# Altium schematic symbol library ICS_DIVERSOS.SchLib: 48 symbols (part 3 of 3)
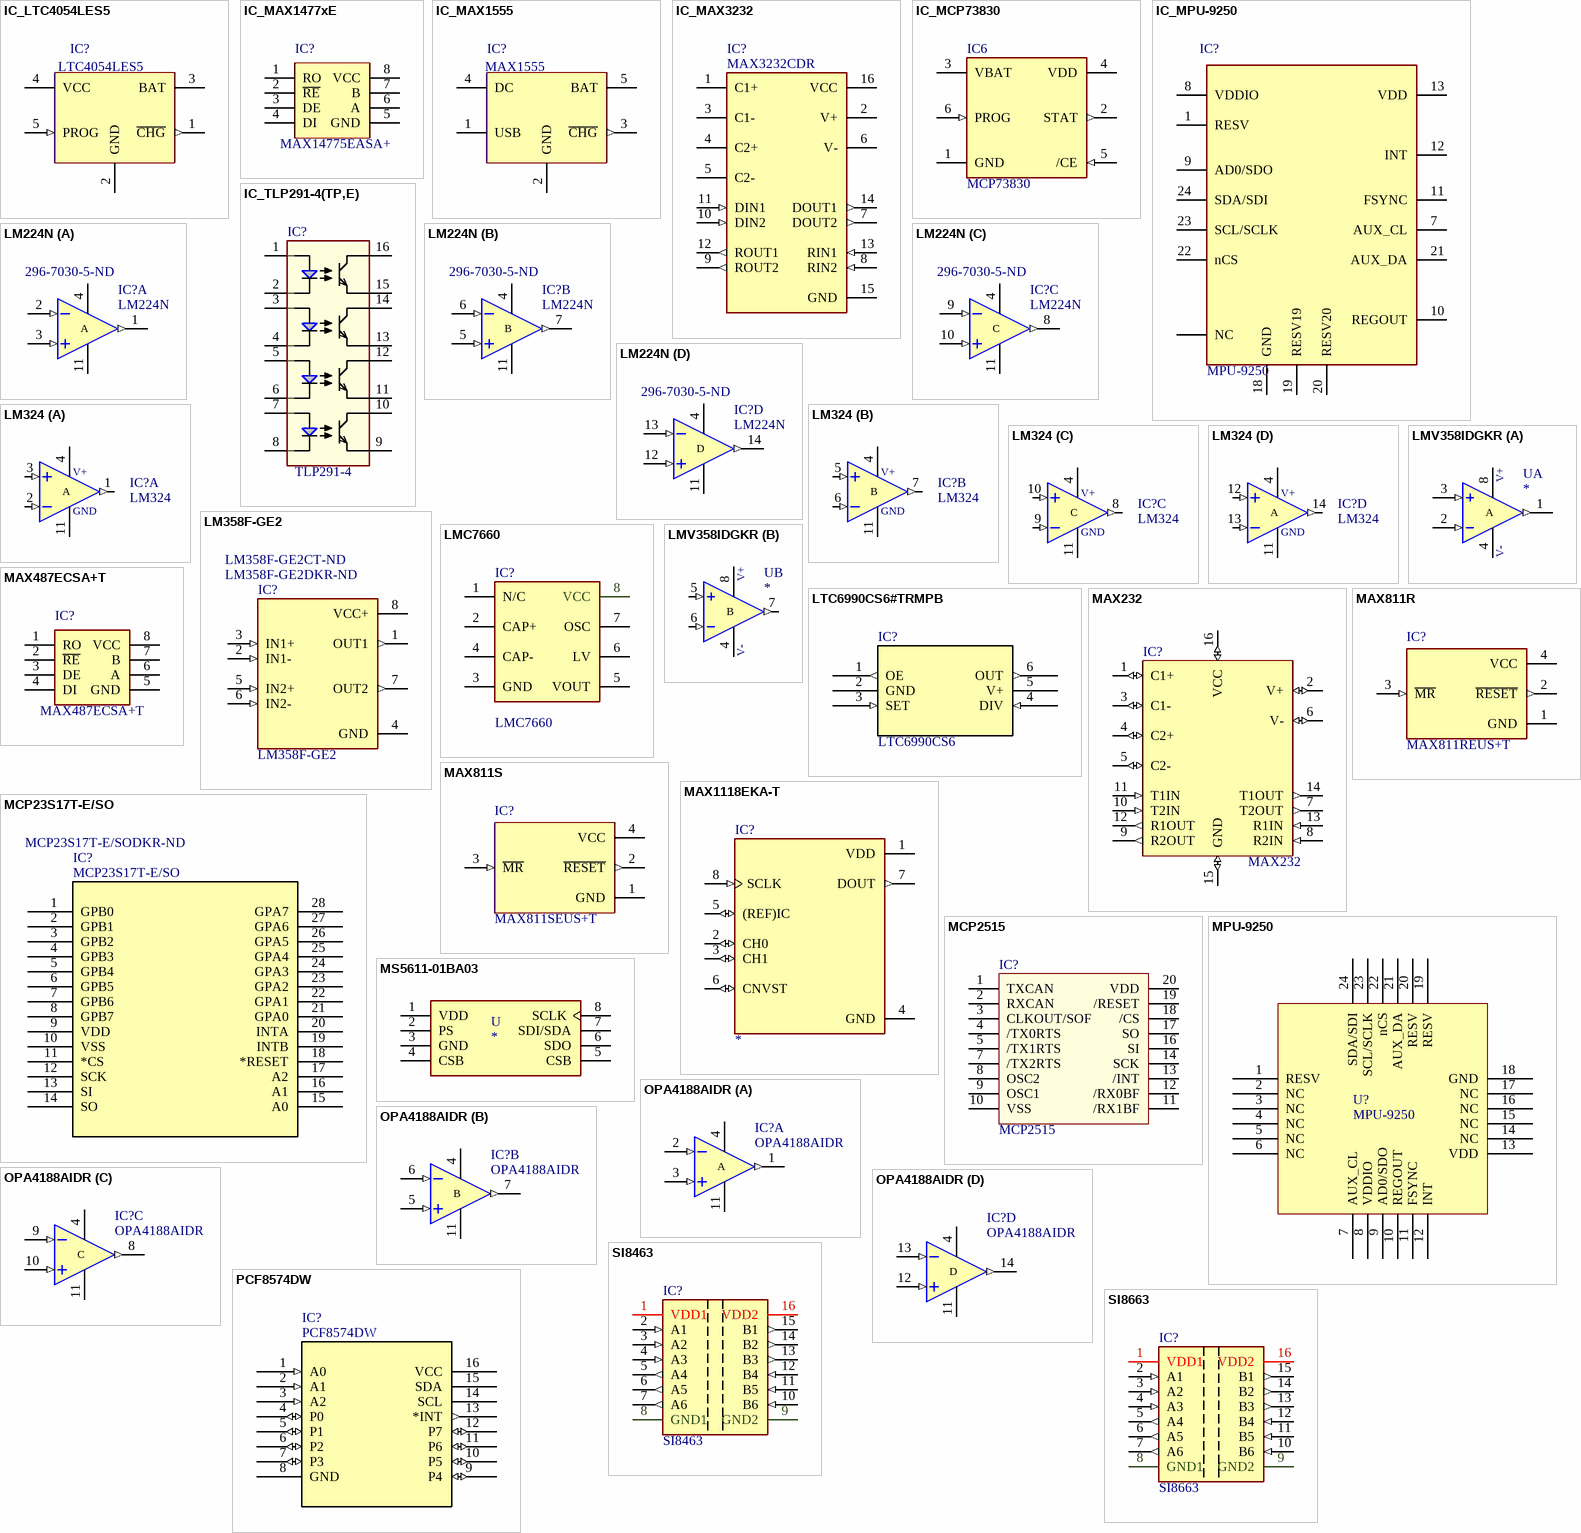
[diagram p4: symbols IC_LTC4054LES5 to SI8663]

## SI8463
designator IC?
Low Power Six-Channel Digital Isolator; Manufacturer: Silicon Labs; Manufacturer Part Number: SI8463AB-A-IS1; Fabricante: SILABS; Min Supply Voltage: 2.7V; Max Supply Voltage: 5.5V; Number of Channels: 6; Data Rate: 1Mbps; Propagation Delay: 35ns; Channel Type: Unidirectional; Isolated Power: No; Pulse Width Distortion (PWD): 25ns; Nominal Supply Current: 6mA; Power Dissipation: 415mW; MPN: SI8463; VALUE: SI8463; Footprint: SOIC 16_NB; Supplier 1: Digi-Key; Supplier Part Number 1: SI8463AB-A-IS1-ND; Stock 1: 0; Pricing 1: 48=2,16229 (USD); RoHS: Yes; Case/Package: SOIC; Number of Pins: 16; Weight: 0.006637oz; Min Operating Temperature: -40°C; Max Operating Temperature: 125°C; Packaging: Rail/Tube; Type: General Purpose; Package Quantity: 48; Radiation Hardening: No; ComponentLink1URL: https://datasheet.ciiva.com/9213/si846x-9213227.pdf?src-supplier=Avnet; ComponentLink1Description: https://datasheet.ciiva.com/9213/si846x-9213227.pdf?src-supplier=Avnet; ComponentLink2URL: https://datasheet.ciiva.com/2082/si846x-2082861.pdf?src-supplier=Digi-Key; ComponentLink2Description: https://datasheet.ciiva.com/2082/si846x-2082861.pdf?src-supplier=Digi-Key
footprint NB SOIC-16 (SOIC 16 PIN NARROW BODY)
pins: 1 VDD1 (power), 2 A1 (in), 3 A2 (in), 4 A3 (in), 5 A4 (out), 6 A5 (out), 7 A6 (out), 8 GND1 (power), 9 GND2 (power), 10 B6 (in), 11 B5 (in), 12 B4 (in), 13 B3 (out), 14 B2 (out), 15 B1 (out), 16 VDD2 (power)

## SI8663
designator IC?
Low Power Six-Channel Digital Isolator; Manufacturer: Silicon Labs; Manufacturer Part Number: SI8663BD-B-IS; Fabricante: SILABS; Number of Channels: 6; Data Rate: 150Mbps; Propagation Delay: 13ns; Channel Type: Unidirectional; Isolated Power: No; Pulse Width Distortion (PWD): 4.5ns; Min Supply Voltage: 2.5V; Max Supply Voltage: 5.5V; Max Power Dissipation: 415mW; Isolation Voltage: 5kV; Operating Supply Current: 12.3mA; Rise Time: 4ns; Turn-On Delay Time: 10ns; Max Input Current: 9.1mA; MPN: SI8663; Footprint: FOOTPRINT; VALUE: SI8663; Supplier 1: Digi-Key; Supplier Part Number 1: 336-2129-5-ND; Stock 1: 598; Pricing 1: 1=2,86000, 25=2,75000, 100=2,64420, 1000=2,59899 (USD); RoHS: Yes; Case/Package: SOIC; Number of Pins: 16; Weight: 0.001764oz; Min Operating Temperature: -40°C; Max Operating Temperature: 125°C; Packaging: Rail/Tube; Type: General Purpose; Polarity: Unidirectional; Length: 10.3mm; Width: 2.65mm; Depth: 7.5mm; REACH SVHC: Unknown; ComponentLink1URL: https://datasheet.ciiva.com/2082/si866x-2082067.pdf?src-supplier=Digi-Key; ComponentLink1Description: https://datasheet.ciiva.com/2082/si866x-2082067.pdf?src-supplier=Digi-Key; ComponentLink2URL: https://datasheet.ciiva.com/46410/1816593-46410042.pdf?src-supplier=Element14; ComponentLink2Description: https://datasheet.ciiva.com/46410/1816593-46410042.pdf?src-supplier=Element14; ComponentLink3URL: https://datasheet.ciiva.com/4781/si866x-41125-4781965.pdf?src-supplier=Mouser; ComponentLink3Description: https://datasheet.ciiva.com/4781/si866x-41125-4781965.pdf?src-supplier=Mouser
footprint WB SOIC-16 (SOIC, 16-Leads, Body 10,30x7,50mm, Pitch 1,27mm, IPC Medium Density)
pins: 1 VDD1 (power), 2 A1 (in), 3 A2 (in), 4 A3 (in), 5 A4 (out), 6 A5 (out), 7 A6 (out), 8 GND1 (power), 9 GND2 (power), 10 B6 (in), 11 B5 (in), 12 B4 (in), 13 B3 (out), 14 B2 (out), 15 B1 (out), 16 VDD2 (power)

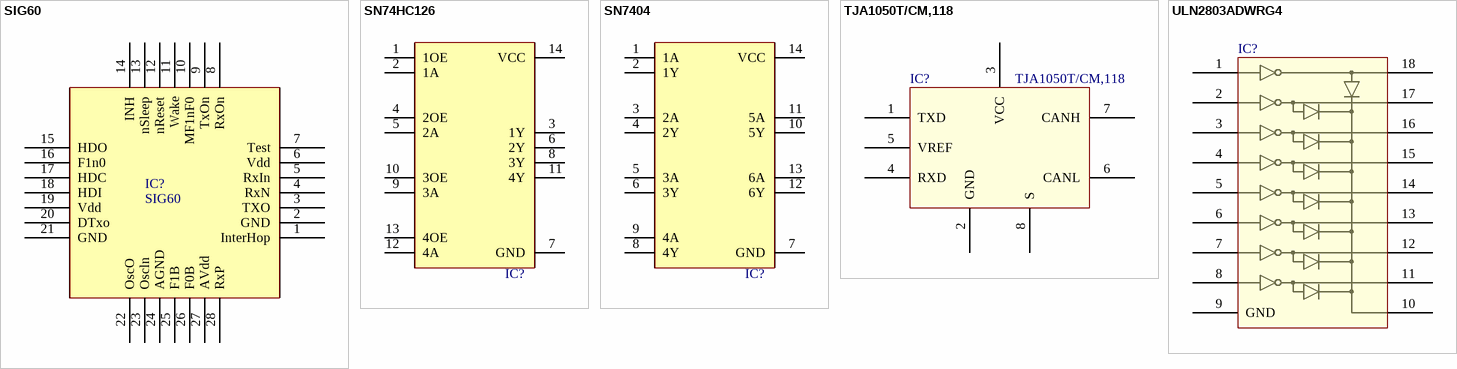
[diagram p2: symbols SIG60 to ULN2803ADWRG4]

## SIG60
designator IC?
The SIG60 IC device communicate over DC battery power line using UART protocol bytes at bit rates up to 115.2 Kbit/s.; MPN: *; Value: *; Footprint: *; Parameter 1: *; ComponentLink1Description: Datasheet; ComponentLink1URL: https://www.yamar.com/datasheet/DS-SIG60.pdf; ComponentLink2Description: Loja; ComponentLink2URL: https://yamar.com/product/sig60/
footprint QFN28
pins: 1 InterHop, 2 GND, 3 TXO, 4 RxN, 5 RxIn, 6 Vdd, 7 Test, 8 RxOn, 9 TxOn, 10 MF1nF0, 11 Wake, 12 nReset, 13 nSleep, 14 INH, 15 HDO, 16 F1n0, 17 HDC, 18 HDI, 19 Vdd, 20 DTxo, 21 GND, 22 OscO, 23 Oscln, 24 AGND, 25 F1B, 26 F0B, 27 AVdd, 28 RxP

## SN74HC126
designator IC?, comment SN74HC126N  (value not drawn)
IC BUFFER NON-INVERT 6V 14DIP; Fabricante: Texas Instruments; Logic Function: Buffer,Inverting; Number of Elements: 4; Propagation Delay: 188ns; Number of Bits per Element: 1; High Level Output Current: -7.8mA; Low Level Output Current: 7.8mA; Polarity: Non-Inverting; Operating Supply Voltage: 5V; Min Supply Voltage: 2V; Quiescent Current: 8uA; Schmitt Trigger Input: No; ComponentLink1Description: LOJA; ComponentLink1URL: https://www.digikey.com/product-detail/en/texas-instruments/SN74HC126N/296-8221-5-ND/376889; ComponentLink2Description: DATASHEET; ComponentLink2URL: https://www.ti.com/lit/ds/symlink/sn74hc126.pdf?ts=1591663440366; Footprint: 14-PDIP; MPN: SN74HC126N; Value: SN74HC126N; Supplier 1: Digi-Key; Supplier Part Number 1: 296-8221-5-ND; Manufacturer: Texas Instruments; Manufacturer Part Number: SN74HC126N; Stock 1: 1620; Pricing 1: 1=0,43000, 10=0,37100, 25=0,34640, 100=0,27720, 250=0,25740, 500=0,21780, 1000=0,16830, 2500=0,15345, 5000=0,14355 (USD); RoHS: Yes; Mount: Through Hole; Case/Package: PDIP; Number of Pins: 14; Min Operating Temperature: -40°C; Max Operating Temperature: 85°C; Packaging: Rail/Tube; Number of Outputs: 4; Number of Bits: 4; Number of Channels: 4; Number of Inputs: 4; Max Supply Voltage: 6V; Package Quantity: 25; Number of Input Lines: 4; Number of Output Lines: 4; Turn-On Delay Time: 188ns; Output Current: 7.8mA; Termination: Through Hole; Output Voltage: 6V; Length: 19.3mm; Height: 4.57mm; Width: 6.35mm; Radiation Hardening: No; Lead Free: Lead Free; REACH SVHC: No SVHC; ComponentLink3URL: https://datasheet.ciiva.com/15094/getdatasheetpartid-37264-15094071.pdf?src-supplier=Verical; ComponentLink3Description: https://datasheet.ciiva.com/15094/getdatasheetpartid-37264-15094071.pdf?src-supplier=Verical; ComponentLink4URL: https://datasheet.ciiva.com/27747/914849-27747592.pdf?src-supplier=Jameco; ComponentLink4Description: https://datasheet.ciiva.com/27747/914849-27747592.pdf?src-supplier=Jameco; ComponentLink5URL: https://datasheet.ciiva.com/41457/001016650-da-01-en-ic-bus-buf-qd-sn7-sn74hc126n-pdip-14-tid-41457018.pdf?src-supplier=Conrad; ComponentLink5Description: https://datasheet.ciiva.com/41457/001016650-da-01-en-ic-bus-buf-qd-sn7-sn74hc126n-pdip-14-tid-41457018.pdf?src-supplier=Conrad; ComponentLink6URL: https://datasheet.ciiva.com/29296/164364-da-01-en-74hc125-126-29296638.pdf?src-supplier=Conrad; ComponentLink6Description: https://datasheet.ciiva.com/29296/164364-da-01-en-74hc125-126-29296638.pdf?src-supplier=Conrad; ComponentLink7URL: https://datasheet.ciiva.com/1834/sn74hc126-1834711.pdf?src-supplier=Digi-Key; ComponentLink7Description: https://datasheet.ciiva.com/1834/sn74hc126-1834711.pdf?src-supplier=Digi-Key; ComponentLink8URL: https://datasheet.ciiva.com/7794/1767018-7794923.pdf?src-supplier=Element14; ComponentLink8Description: https://datasheet.ciiva.com/7794/1767018-7794923.pdf?src-supplier=Element14; ComponentLink9URL: https://datasheet.ciiva.com/26247/sn74hc126-26247949.pdf?src-supplier=Avnet+Europe; ComponentLink9Description: https://datasheet.ciiva.com/26247/sn74hc126-26247949.pdf?src-supplier=Avnet+Europe; ComponentLink10URL: https://datasheet.ciiva.com/14300/sn74hc126-14300988.pdf?src-supplier=Avnet; ComponentLink10Description: https://datasheet.ciiva.com/14300/sn74hc126-14300988.pdf?src-supplier=Avnet; ComponentLink11URL: https://datasheet.ciiva.com/46439/1831363-46439773.pdf?src-supplier=Element14; ComponentLink11Description: https://datasheet.ciiva.com/46439/1831363-46439773.pdf?src-supplier=Element14
footprint DIP14 (DIP; 14 Leads; Row Spacing 7.62 mm; Pitch 2.54 mm)
pins: 1 1OE, 2 1A, 3 1Y (power), 4 2OE, 5 2A, 6 2Y, 7 GND (power), 8 3Y, 9 3A, 10 3OE, 11 4Y (power), 12 4A, 13 4OE, 14 VCC (power)

## SN7404
designator IC?  (value not drawn)
IC INVERTER 6CH 6-INP 14DIP; Manufacturer Part Number: SN7404N; Fabricante: Texas Instruments; Min Supply Voltage: 4.75V; Max Supply Voltage: 5.25V; Propagation Delay: 22ns; Operating Supply Voltage: 5V; Number of Gates: 6; Output Current: 16mA; Number of Inputs: 1; Logic Function: Buffer,Inverter; High Level Output Current: -400uA; Schmitt Trigger Input: No; ComponentLink1Description: LOJA; ComponentLink1URL: https://www.digikey.com/product-detail/en/texas-instruments/SN7404N/296-14642-5-ND/555980; ComponentLink2Description: DATASHEET; ComponentLink2URL: https://www.ti.com/lit/ds/symlink/sn74ls04.pdf; Footprint: 14-PDIP; MPN: SN7404; Value: SN7404; Supplier 1: Digi-Key; Supplier Part Number 1: 296-14642-5-ND; Manufacturer: Texas Instruments; Stock 1: 1231; Pricing 1: 1=2,02000, 10=1,81300, 25=1,71000, 100=1,45690, 250=1,36800, 500=1,19700, 1000=0,99180, 2500=0,92340, 5000=0,90972 (USD); RoHS: Yes; Mount: Through Hole; Case/Package: PDIP; Number of Pins: 14; Weight: 0.032734oz; Contact Plating: Gold; Min Operating Temperature: 0°C; Max Operating Temperature: 70°C; Packaging: Rail/Tube; Package Quantity: 25; Number of Circuits: 6; Low Level Output Current: 16mA; Number of Bits: 6; Turn-On Delay Time: 22ns; Number of Elements: 6; Max Output Current: 16mA; Termination: Through Hole; Length: 19.3mm; Height: 4.57mm; Width: 6.35mm; Radiation Hardening: No; Lead Free: Lead Free; REACH SVHC: No SVHC; ComponentLink3URL: https://datasheet.ciiva.com/20167/83-0852-20167581.pdf?src-supplier=Rapid+Electronics; ComponentLink3Description: https://datasheet.ciiva.com/20167/83-0852-20167581.pdf?src-supplier=Rapid+Electronics; ComponentLink4URL: https://datasheet.ciiva.com/15089/getdatasheetpartid-237341-15089423.pdf?src-supplier=Verical; ComponentLink4Description: https://datasheet.ciiva.com/15089/getdatasheetpartid-237341-15089423.pdf?src-supplier=Verical; ComponentLink5URL: https://datasheet.ciiva.com/41456/001015986-da-01-en-ic-hex-inverter-sn74-sn7404n-pdip-14-tid-41456116.pdf?src-supplier=Conrad; ComponentLink5Description: https://datasheet.ciiva.com/41456/001015986-da-01-en-ic-hex-inverter-sn74-sn7404n-pdip-14-tid-41456116.pdf?src-supplier=Conrad; ComponentLink6URL: https://datasheet.ciiva.com/29296/170054-da-01-en-sn-7404-n-5404-74ls04-54ls04-29296935.pdf?src-supplier=Conrad; ComponentLink6Description: https://datasheet.ciiva.com/29296/170054-da-01-en-sn-7404-n-5404-74ls04-54ls04-29296935.pdf?src-supplier=Conrad; ComponentLink7URL: https://datasheet.ciiva.com/1867/sn74ls04-1867777.pdf?src-supplier=Digi-Key; ComponentLink7Description: https://datasheet.ciiva.com/1867/sn74ls04-1867777.pdf?src-supplier=Digi-Key; ComponentLink8URL: https://datasheet.ciiva.com/7281/1836444-7281576.pdf?src-supplier=Newark; ComponentLink8Description: https://datasheet.ciiva.com/7281/1836444-7281576.pdf?src-supplier=Newark; ComponentLink9URL: https://datasheet.ciiva.com/26242/sn54ls04-sp-26242202.pdf?src-supplier=Avnet+Europe; ComponentLink9Description: https://datasheet.ciiva.com/26242/sn54ls04-sp-26242202.pdf?src-supplier=Avnet+Europe; ComponentLink10URL: https://datasheet.ciiva.com/14134/sn7404-eng-tds-14134445.pdf?src-supplier=Distrelec; ComponentLink10Description: https://datasheet.ciiva.com/14134/sn7404-eng-tds-14134445.pdf?src-supplier=Distrelec
footprint DIP14 (DIP; 14 Leads; Row Spacing 7.62 mm; Pitch 2.54 mm)
pins: 1 1A, 2 1Y, 3 2A, 4 2Y, 5 3A, 6 3Y, 7 GND (power), 8 4Y, 9 4A, 10 5Y, 11 5A (power), 12 6Y (power), 13 6A, 14 VCC (power)

## TJA1050T/CM,118
designator IC?
1/1 Transceiver Half CANbus 8-SO; Manufacturer: NXP Semiconductors; FABRICANTE: NXP USA Inc.; Max Supply Voltage: 5.25V; Min Supply Voltage: 4.75V; Nominal Supply Current: 10mA; Number of Transmit Buffers: 1; Data Rate: 1Mbps; Interface: CAN; Simplex/Duplex: Half Duplex; Receiver Hysteresis: 70mV; ComponentLink1Description: LOJA; ComponentLink1URL: https://www.digikey.com/product-detail/en/nxp-usa-inc/TJA1050T-CM-118/568-10292-1-ND/4162437; ComponentLink2Description: DATASHEET; ComponentLink2URL: https://www.nxp.com/docs/en/data-sheet/TJA1050.pdf; MPN: TJA1050T/CM,118; FOOTPRINT: 8-SOIC; Value: TJA1050T/CM,118; Supplier 1: Digi-Key; Supplier Part Number 1: 568-10292-1-ND; Manufacturer Part Number: TJA1050T/CM,118; Stock 1: 110249; Pricing 1: 1=1,22000, 10=1,09200, 25=1,03600, 100=0,79550, 250=0,70300, 500=0,66600, 1000=0,51800 (USD); RoHS: Yes; Mount: Surface Mount; Case/Package: SO; Number of Pins: 8; Contact Plating: Gold,Silver; Min Operating Temperature: -40°C; Max Operating Temperature: 150°C; Packaging: Tape and Reel; Package Quantity: 2500; Number of Receive Buffers: 1; Number of Transceivers: 1; Max Supply Current: 10mA; Radiation Hardening: No; REACH SVHC: No SVHC; Lead Free: Lead Free; ComponentLink3URL: https://datasheet.ciiva.com/18624/tja1050-18624869.pdf?src-supplier=Digi-Key; ComponentLink3Description: https://datasheet.ciiva.com/18624/tja1050-18624869.pdf?src-supplier=Digi-Key; ComponentLink4URL: https://datasheet.ciiva.com/26933/getdatasheetpartid-747091-26933446.pdf?src-supplier=Verical; ComponentLink4Description: https://datasheet.ciiva.com/26933/getdatasheetpartid-747091-26933446.pdf?src-supplier=Verical; ComponentLink5URL: https://datasheet.ciiva.com/29891/tja1050-29891527.pdf?src-supplier=Avnet; ComponentLink5Description: https://datasheet.ciiva.com/29891/tja1050-29891527.pdf?src-supplier=Avnet; ComponentLink6URL: https://datasheet.ciiva.com/24191/tja1050-24191228.pdf?src-supplier=Future+Electronics; ComponentLink6Description: https://datasheet.ciiva.com/24191/tja1050-24191228.pdf?src-supplier=Future+Electronics
footprint SOIC 8 - M (SOIC, 8-Leads, Body 4,93x3,94mm, Pitch 1,27mm, IPC Medium Density)
pins: 1 TXD, 2 GND, 3 VCC, 4 RXD, 5 VREF, 6 CANL, 7 CANH, 8 S

## ULN2803ADWRG4
designator IC?  (value not drawn)
Bipolar (BJT) Transistor Array 8 NPN Darlington 50V 500mA   Surface Mount 18-SOIC; MPN: ULN2803ADWRG4; FABRICANTE: Texas Instruments; Number of Elements: 8; Collector Emitter Saturation Voltage: 1.1V; VALUE: *; FOOTPRINT: 18 SOIC; ComponentLink1Description: LOJA; ComponentLink1URL: https://www.digikey.com/product-detail/en/texas-instruments/ULN2803ADWRG4/296-35964-1-ND/4134939; ComponentLink2Description: DATASHEET; ComponentLink2URL: http://www.ti.com/lit/ds/symlink/uln2803a.pdf?ts=1588785608972; Supplier 1: Digi-Key; Supplier Part Number 1: 296-35964-1-ND; Manufacturer: Texas Instruments; Manufacturer Part Number: ULN2803ADWRG4; Stock 1: 6214; Pricing 1: 1=1,29000, 10=1,15100, 25=1,09200, 100=0,81900, 250=0,81120, 500=0,69420, 1000=0,56550 (USD); RoHS: Yes; Mount: Surface Mount; Case/Package: SOIC; Number of Pins: 18; Contact Plating: Gold; Min Operating Temperature: -65°C; Max Operating Temperature: 150°C; Packaging: Tape and Reel; Package Quantity: 2000; Collector Emitter Voltage (VCEO): 50V; Polarity: NPN; Max Collector Current: 500mA; Collector Emitter Breakdown Voltage: 50V; Max Breakdown Voltage: 50V; Number of Drivers: 8; Length: 11.62mm; Height: 2.35mm; Width: 7.52mm; Radiation Hardening: No; Lead Free: Lead Free; ComponentLink3URL: https://datasheet.ciiva.com/4459/slrs049e-128055-4459040.pdf?src-supplier=Mouser; ComponentLink3Description: https://datasheet.ciiva.com/4459/slrs049e-128055-4459040.pdf?src-supplier=Mouser; ComponentLink4URL: https://datasheet.ciiva.com/18553/uln2803a-18553175.pdf?src-supplier=Digi-Key; ComponentLink4Description: https://datasheet.ciiva.com/18553/uln2803a-18553175.pdf?src-supplier=Digi-Key; ComponentLink5URL: https://datasheet.ciiva.com/18553/uln2803a-18553176.pdf?src-supplier=Digi-Key; ComponentLink5Description: https://datasheet.ciiva.com/18553/uln2803a-18553176.pdf?src-supplier=Digi-Key; ComponentLink6URL: https://datasheet.ciiva.com/14424/uln2803a-14424073.pdf?src-supplier=Avnet; ComponentLink6Description: https://datasheet.ciiva.com/14424/uln2803a-14424073.pdf?src-supplier=Avnet; ComponentLink7URL: https://datasheet.ciiva.com/18553/uln2803a-18553177.pdf?src-supplier=Digi-Key; ComponentLink7Description: https://datasheet.ciiva.com/18553/uln2803a-18553177.pdf?src-supplier=Digi-Key
footprint 18-SOIC (SOIC, 18-Leads, Body 12,80x7,50mm, Pitch 1,27mm, IPC Medium Density)
pins: 1 1B, 2 2B, 3 3B, 4 4B, 5 5B, 6 6B, 7 7B, 8 8B, 9 GND, 10 COM, 11 8C, 12 7C, 13 6C, 14 5C, 15 4C, 16 3C, 17 2C, 18 1C